# EAGLE library part ICM-20948 (library Bits_library_eagle 9x)
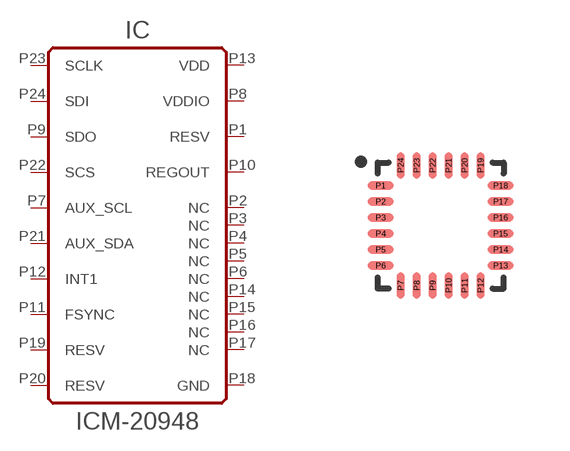
[diagram p46: symbol with the pads of LQFN-24; footprint LQFN-24]

Designator prefix IC

## ICM-20948  [LQFN-24]
P1  RESV  pas
P2  NC  pas
P3  NC  pas
P4  NC  pas
P5  NC  pas
P6  NC  pas
P7  AUX_SCL
P8  VDDIO  pwr
P9  SDO
P10  REGOUT  pwr
P11  FSYNC
P12  INT1
P13  VDD  pwr
P14  NC  pas
P15  NC  pas
P16  NC  pas
P17  NC  pas
P18  GND  pwr
P19  RESV  pas
P20  RESV  pas
P21  AUX_SDA
P22  SCS
P23  SCLK
P24  SDI

## Footprint LQFN-24 (pad centres in mm)
smd 0.65 x 0.2: P1 -1.5,1; P2 -1.5,0.6; P3 -1.5,0.2; P4 -1.5,-0.2; P5 -1.5,-0.6; P6 -1.5,-1; P13 1.5,-1; P14 1.5,-0.6; P15 1.5,-0.2; P16 1.5,0.2; P17 1.5,0.6; P18 1.5,1
smd 0.2 x 0.65: P7 -1,-1.5; P8 -0.6,-1.5; P9 -0.2,-1.5; P10 0.2,-1.5; P11 0.6,-1.5; P12 1,-1.5; P19 1,1.5; P20 0.6,1.5; P21 0.2,1.5; P22 -0.2,1.5; P23 -0.6,1.5; P24 -1,1.5